# EAGLE library part ZIGBEE (library tofu)
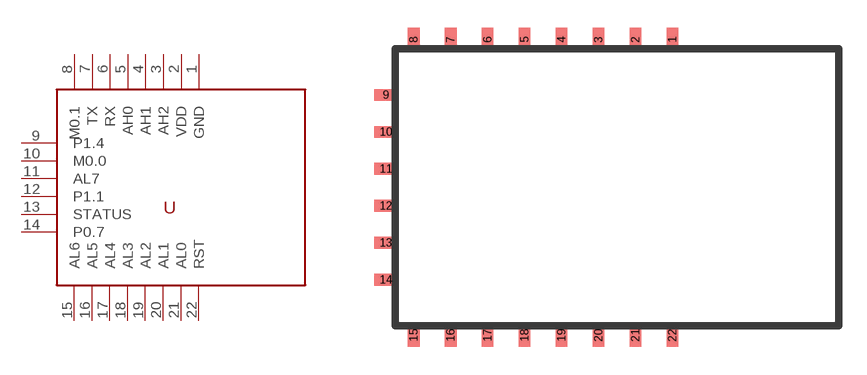
[diagram p5: symbol with the pads of ZIGBEE; footprint ZIGBEE]

Designator prefix -

## ZIGBEE  [ZIGBEE]
1  GND
2  VDD
3  AH2
4  AH1
5  AH0
6  RX
7  TX
8  M0.1
9  P1.4
10  M0.0
11  AL7
12  P1.1
13  STATUS
14  P0.7
15  AL6
16  AL5
17  AL4
18  AL3
19  AL2
20  AL1
21  AL0
22  RST

## Footprint ZIGBEE (pad centres in mm)
smd 0.635 x 1.27: 1 3,8; 2 1,8; 3 -1,8; 4 -3,8; 5 -5,8; 6 -7,8; 7 -9,8; 8 -11,8; 15 -11,-8; 16 -9,-8; 17 -7,-8; 18 -5,-8; 19 -3,-8; 20 -1,-8; 21 1,-8; 22 3,-8
smd 1.27 x 0.635: 9 -12.5,5; 10 -12.5,3; 11 -12.5,1; 12 -12.5,-1; 13 -12.5,-3; 14 -12.5,-5